# Altium footprint library Control.PcbLib: 6 footprints
Each footprint in its own frame and in the unit in brackets; x right, y up, seen from the top. Pads: shape width x height; smd on the part's side, far side on the other; paste and mask are expansions set on the pad; w line width, h text height; cw(c..) or ccw(c..) is an arc to the next point about the centre after c.
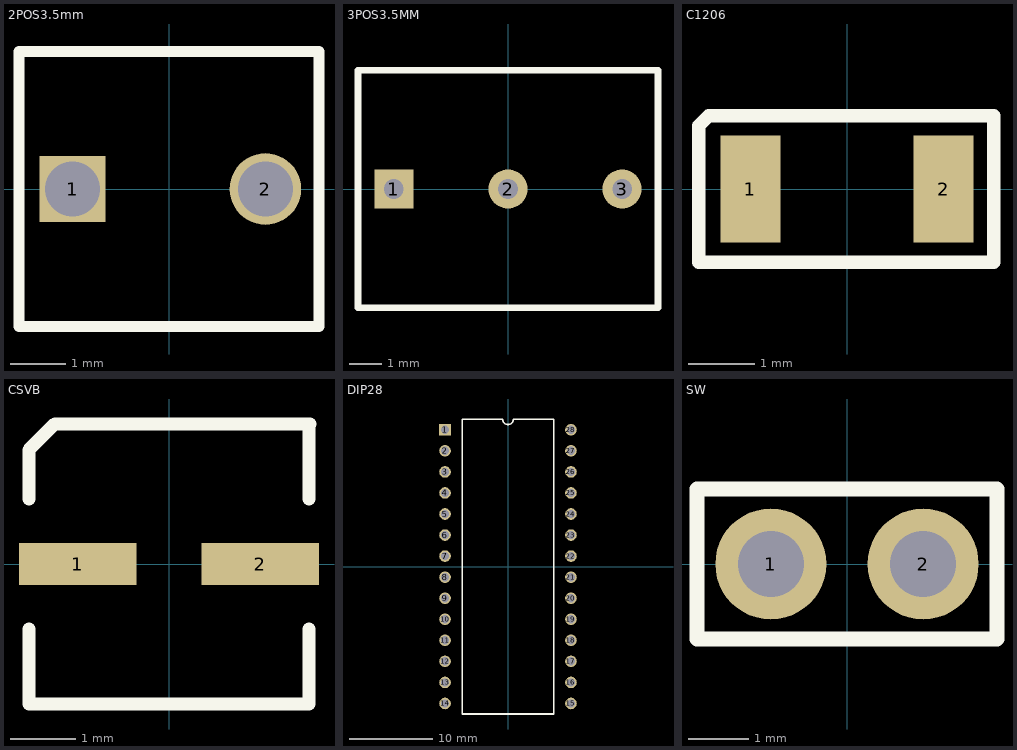
[diagram p0: the footprints below, top view; thin cyan lines are the x and y axes]

## 2POS3.5mm [mm]
pads (2):
  rect 1.2x1.2 hole 1: 1(-1.75,0)
  round 1.3 hole 1: 2(1.75,0)
Top Overlay:
  lines w0.2: -2.725,-2.5 -2.725,2.5 2.725,2.5 2.725,-2.5 -2.725,-2.5

## 3POS3.5MM [mm]
pads (3):
  rect 1.2x1.2 hole 0.6: 1(-3.5,0)
  round 1.2 hole 0.6: 2(0,0) 3(3.5,0)
Top Overlay:
  lines w0.2: -4.6,-3.645 4.6,-3.645 4.6,3.645 -4.6,3.645 -4.6,-3.645

## C1206 [mm]
pads (2):
  rect 0.9x1.6 smd: 1(-1.45,0) 2(1.45,0)
Top Overlay:
  lines w0.2: -2.225,-1.1 -2.225,0.95 -2.075,1.1 2.2,1.1 2.2,-1.1 -2.225,-1.1

## CSVB [mm]
pads (2):
  rect 1.8x0.65 smd: 1(-1.4,0) 2(1.4,0)
Top Overlay:
  lines w0.2: -2.15,-1 -2.15,-2.15 2.15,-2.15 2.15,-1 ; -2.15,1 -2.15,1.75 -1.75,2.15 2.159,2.15 ; 2.15,1 2.15,2.15

## DIP28 [mm]
pads (28):
  rect 1.4x1.4 hole 1: 1(-7.6,16.51)
  round 1.4 hole 1: 2(-7.6,13.97) 3(-7.6,11.43) 4(-7.6,8.89) 5(-7.6,6.35) 6(-7.6,3.81) 7(-7.6,1.27) 8(-7.6,-1.27) 9(-7.6,-3.81) 10(-7.6,-6.35) 11(-7.6,-8.89) 12(-7.6,-11.43) 13(-7.6,-13.97) 14(-7.6,-16.51) 15(7.6,-16.51) 16(7.6,-13.97) 17(7.6,-11.43) 18(7.6,-8.89) 19(7.6,-6.35) 20(7.6,-3.81) 21(7.6,-1.27) 22(7.6,1.27) 23(7.6,3.81) 24(7.6,6.35) 25(7.6,8.89) 26(7.6,11.43) 27(7.6,13.97) 28(7.6,16.51)
Top Overlay:
  lines w0.2: -5.515,-17.78 5.515,-17.78 5.515,17.78 0.635,17.78 cw(c0,17.78) -0.635,17.78 -5.515,17.78 -5.515,-17.78

## SW [mm]
pads (2):
  round 1.85 hole 1.1: 1(-1.27,0) 2(1.27,0)
Top Overlay:
  lines w0.254: -2.5,-1.25 2.5,-1.25 2.5,1.25 -2.5,1.25 -2.5,-1.25